# Altium schematic symbol library ULN2003ADR.SchLib: 1 symbol
Pins are listed as number, name and electrical type; pins without a type are passive.

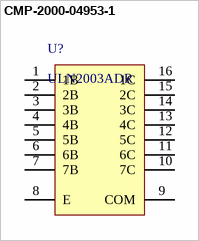
[diagram p0: symbol CMP-2000-04953-1]

## CMP-2000-04953-1
designator U?, comment ULN2003ADR
High-Voltage, High-Current Darlington Transistor Array, 0.5 A, 50 V, -20 to 70 degC, 16-Pin SOIC (D), Green (RoHS & no Sb/Br), Tape and Reel; Manufacturer: TexasInstruments; Peak DC Collector Current: 0.5A; Package Version: 4040047-6/M, 06/2011; Maximum Collector Emitter Voltage: 50V; Configuration: Array7; Maximum Collector Emitter Saturation Voltage: 1.1@100mA|1.3@200mA|1.6@350mAV; Rad Hard: No; Packaging: Tape&Reel; Datasheet URL: http://www.ti.com/general/docs/lit/getliterature.tsp?genericPartNumber=uln2003a&fileType=pdf; Package Reference: D16; Category: DarlingtonBJT; Datasheet Version: Rev. O, 01/2016; Manufacturer URL: http://www.ti.com/; Type: NPN; Package Description: 16-Pin Plastic Small Outline, Body 9.9 x 3.9 mm, Pitch 1.27 mm; Mounting: SurfaceMount; Package: 16SOIC; Package URL: http://www.ti.com/lit/ml/mpds178g/mpds178g.pdf
footprint D0016A_L (SOIC, 16-Leads, Body 10x4mm, Pitch 1.27mm, IPC High Density)
footprint D0016A_N (SOIC, 16-Leads, Body 10x4mm, Pitch 1.27mm, IPC Medium Density)
footprint D0016A_M (SOIC, 16-Leads, Body 10x4mm, Pitch 1.27mm, IPC Low Density)
pins: 1 1B "Channel 1 Darlington base input", 2 2B "Channel 2 Darlington collector output", 3 3B "Channel 3 Darlington collector output", 4 4B "Channel 4 Darlington collector output", 5 5B "Channel 5 Darlington collector output", 6 6B "Channel 6 Darlington collector output", 7 7B "Channel 7 Darlington collector output", 8 E "Common emitter shared by all channels (typically tied to ground)", 9 COM "Common cathode node for flyback diodes (required for inductive loads)", 10 7C "Channel 7 Darlington base input", 11 6C "Channel 6 Darlington base input", 12 5C "Channel 5 Darlington base input", 13 4C "Channel 4 Darlington base input", 14 3C "Channel 3 Darlington base input", 15 2C "Channel 2 Darlington base input", 16 1C "Channel 1 Darlington collector output"